# EAGLE library part SIMLOCK (library Simplex-Connectors)
SIM card holder with lock detection
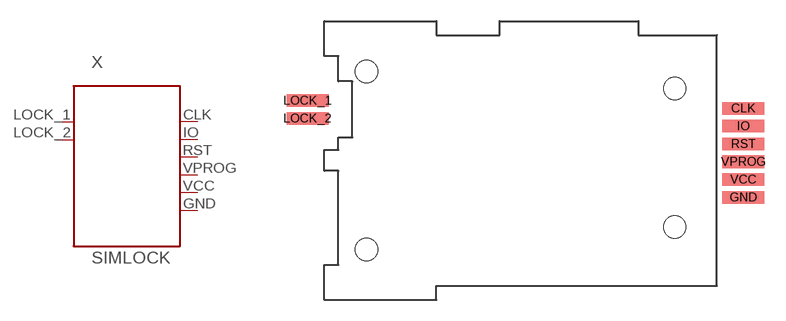
[diagram p0: symbol with the pads of SIMLOCK_C707_10M006; footprint SIMLOCK_C707_10M006]

Designator prefix X

## SIMLOCKC707_10M006_000_2  [SIMLOCK_C707_10M006]
CLK  CLK
GND  GND
IO  IO
LOCK_1  LOCK_01
LOCK_2  LOCK_02
RST  RST
VCC  VCC
VPROG  VPROG

## Footprint SIMLOCK_C707_10M006 (pad centres in mm)
Amphenol SIMLOCK C707 10M006 000 2
smd 3 x 0.9: CLK 26.9,10.07; GND 26.9,3.72; IO 26.9,8.8; LOCK_1 -4.2,10.62; LOCK_2 -4.2,9.35; RST 26.9,7.53; VCC 26.9,4.99; VPROG 26.9,6.26
hole 1.6 at 0,0
hole 1.6 at 22,1.6
hole 1.6 at 0,12.7
hole 1.6 at 22,11.5